# Altium integrated library Xilinx XC4000XL.IntLib: 450 symbols (part 29 of 58)

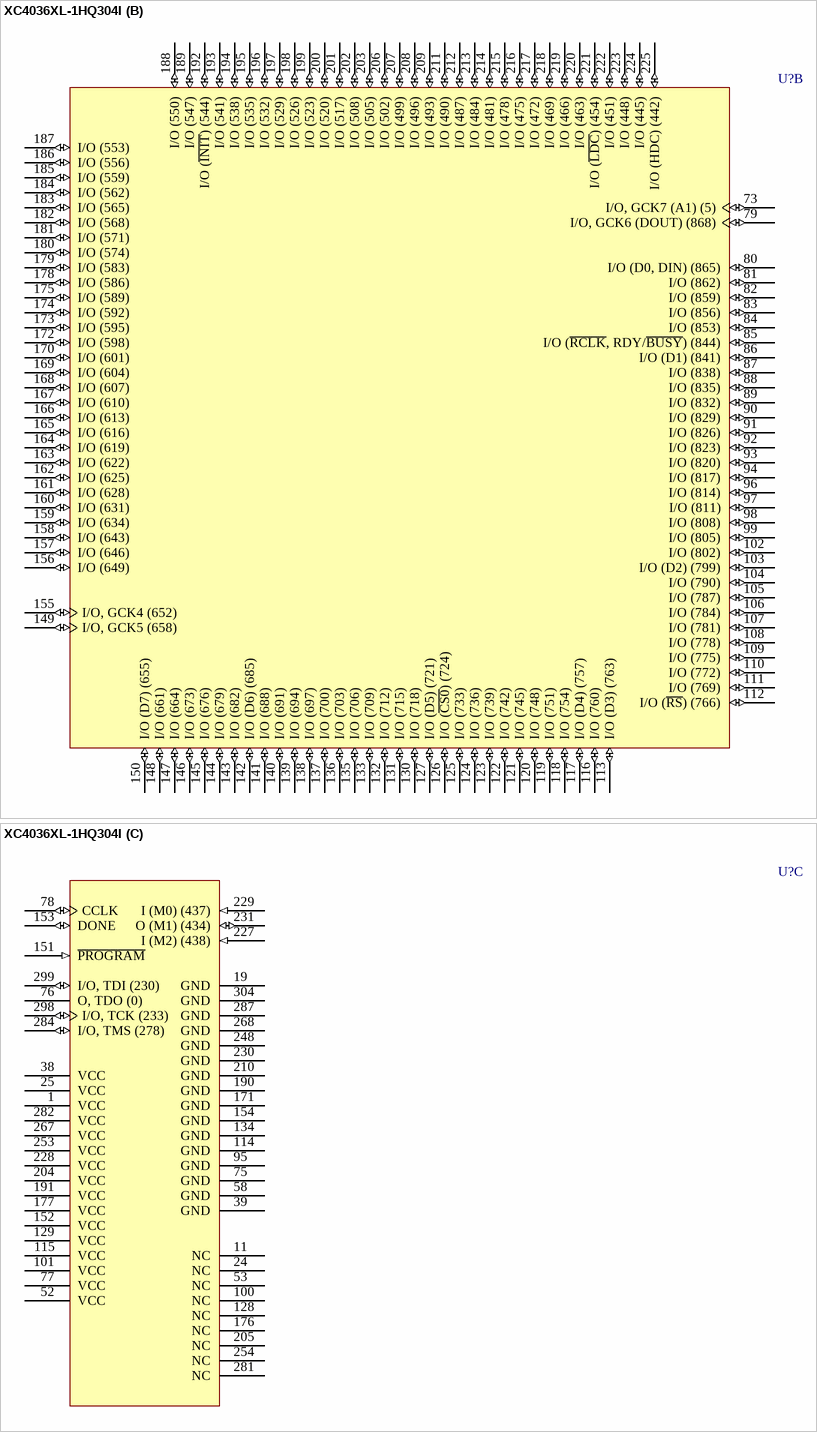
[diagram p262: symbol XC4036XL-1HQ304I]

## XC4036XL-1HQ304I
designator U?
XC4000XL FPGA, 256 I/Os, 304-Pin HQFP, Speed Grade 1, Industrial Grade; Published: 28-Feb-2003; LatestRevisionDate: 13-Apr-2006; LatestRevisionNote: IPC-7351 Footprint Added.; DatasheetVersion: ver1.6, May-1999; PackageVersion: ver1.1, Oct-2002; PackageReference: HQ304; Publisher: Altium Limited; PackageDescription: 304-Pin Heat Sink Quad Flat Pack (HQ304); Supplier 1: Digi-Key; Supplier Part Number 1: XC4036XL-1HQ304I-ND; Code_JEDEC: MO-143-JA; ComponentLink1Description: XC4000XL Datasheet; ComponentLink1URL: http://www.xilinx.com/support/documentation/data_sheets/4000.pdf; ComponentLink2Description: Discontinuation Notice; ComponentLink2URL: http://www.xilinx.com/support/documentation/customer_notices/pdn2004-21.pdf; ComponentLink3Description: HQ304 Package Drawing; ComponentLink3URL: http://www.xilinx.com/support/documentation/package_specs/hq304.pdf; ComponentLink4Description: XC4000 Documents; ComponentLink4URL: http://www.xilinx.com/support/documentation/xc4000.htm; ComponentLink5Description: Xilinx.com Home; ComponentLink5URL: http://www.xilinx.com
footprint HQ304_N (Shrink QFP, 304-Leads, Body 40x40mm, Pitch 0.5mm, IPC Medium Density)
footprint HQ304_L (Shrink QFP, 304-Leads, Body 40x40mm, Pitch 0.5mm, IPC High Density)
footprint HQ304_M (Shrink QFP, 304-Leads, Body 40x40mm, Pitch 0.5mm, IPC Low Density)
part A pins: 2 I/O, GCK8 (A15) (215) (io), 3 I/O (A14) (212) (io), 4 I/O (209) (io), 5 I/O (206) (io), 6 I/O (203) (io), 7 I/O (200) (io), 8 I/O (191) (io), 9 I/O (188) (io), 10 I/O (A13) (185) (io), 12 I/O (A12) (182) (io), 13 I/O (179) (io), 14 I/O (176) (io), 15 I/O (173) (io), 16 I/O (170) (io), 17 I/O (167) (io), 18 I/O (164) (io), 20 I/O (161) (io), 21 I/O (158) (io), 22 I/O (155) (io), 23 I/O (152) (io), 26 I/O (149) (io), 27 I/O (146) (io), 28 I/O (137) (io), 29 I/O (134) (io), 30 I/O (A11) (131) (io), 31 I/O (A10) (128) (io), 32 I/O (125) (io), 33 I/O (122) (io), 34 I/O (A18) (119) (io), 35 I/O (A19) (116) (io), 36 I/O (A9) (113) (io), 37 I/O (A8) (110) (io), 40 I/O (A7) (107) (io), 41 I/O (A6) (104) (io), 42 I/O (A20) (101) (io), 43 I/O (A21) (98) (io), 44 I/O (95) (io), 45 I/O (92) (io), 46 I/O (A5) (89) (io), 47 I/O (A4) (86) (io), 48 I/O (83) (io), 49 I/O (80) (io), 50 I/O (71) (io), 51 I/O (68) (io), 54 I/O (65) (io), 55 I/O (62) (io), 56 I/O (59) (io), 57 I/O (56) (io), 59 I/O (53) (io), 60 I/O (50) (io), 61 I/O (47) (io), 62 I/O (44) (io), 63 I/O (41) (io), 64 I/O (38) (io), 65 I/O (35) (io), 66 I/O (32) (io), 67 I/O (29) (io), 68 I/O (26) (io), 69 I/O (A3) (23) (io), 70 I/O (CS1, A2) (20) (io), 71 I/O (11) (io), 72 I/O (8) (io), 74 I/O (A0, ~{WS}) (2) (io), 226 I/O, GCK3 (439) (io), 232 I/O, GCK2 (431) (io), 233 I/O (428) (io), 234 I/O (425) (io), 235 I/O (422) (io), 236 I/O (413) (io), 237 I/O (410) (io), 238 I/O (407) (io), 239 I/O (404) (io), 240 I/O (401) (io), 241 I/O (398) (io), 242 I/O (395) (io), 243 I/O (392) (io), 244 I/O (389) (io), 245 I/O (386) (io), 246 I/O (383) (io), 247 I/O (380) (io), 249 I/O (377) (io), 250 I/O (374) (io), 251 I/O (371) (io), 252 I/O (368) (io), 255 I/O (365) (io), 256 I/O (362) (io), 257 I/O (353) (io), 258 I/O (350) (io), 259 I/O (347) (io), 260 I/O (344) (io), 261 I/O (341) (io), 262 I/O (338) (io), 263 I/O (335) (io), 264 I/O (332) (io), 265 I/O (329) (io), 266 I/O (326) (io), 269 I/O (323) (io), 270 I/O (320) (io), 271 I/O (317) (io), 272 I/O (314) (io), 273 I/O (311) (io), 274 I/O (308) (io), 275 I/O (305) (io), 276 I/O (302) (io), 277 I/O (299) (io), 278 I/O (296) (io), 279 I/O (287) (io), 280 I/O (284) (io), 283 I/O (281) (io), 285 I/O (275) (io), 286 I/O (272) (io), 288 I/O (269) (io), 289 I/O (266) (io), 290 I/O (263) (io), 291 I/O (260) (io), 292 I/O (257) (io), 293 I/O (254) (io), 294 I/O (251) (io), 295 I/O (248) (io), 296 I/O (245) (io), 297 I/O (242) (io), 300 I/O (227) (io), 301 I/O (224) (io), 302 I/O (A17) (221) (io), 303 I/O, GCK1 (A16) (218) (io)
part B pins: 73 I/O, GCK7 (A1) (5) (io), 79 I/O, GCK6 (DOUT) (868) (io), 80 I/O (D0, DIN) (865) (io), 81 I/O (862) (io), 82 I/O (859) (io), 83 I/O (856) (io), 84 I/O (853) (io), 85 I/O (~{RCLK}, RDY/~{BUSY}) (844) (io), 86 I/O (D1) (841) (io), 87 I/O (838) (io), 88 I/O (835) (io), 89 I/O (832) (io), 90 I/O (829) (io), 91 I/O (826) (io), 92 I/O (823) (io), 93 I/O (820) (io), 94 I/O (817) (io), 96 I/O (814) (io), 97 I/O (811) (io), 98 I/O (808) (io), 99 I/O (805) (io), 102 I/O (802) (io), 103 I/O (D2) (799) (io), 104 I/O (790) (io), 105 I/O (787) (io), 106 I/O (784) (io), 107 I/O (781) (io), 108 I/O (778) (io), 109 I/O (775) (io), 110 I/O (772) (io), 111 I/O (769) (io), 112 I/O (~{RS}) (766) (io), 113 I/O (D3) (763) (io), 116 I/O (760) (io), 117 I/O (D4) (757) (io), 118 I/O (754) (io), 119 I/O (751) (io), 120 I/O (748) (io), 121 I/O (745) (io), 122 I/O (742) (io), 123 I/O (739) (io), 124 I/O (736) (io), 125 I/O (733) (io), 126 I/O (~{CS0}) (724) (io), 127 I/O (D5) (721) (io), 130 I/O (718) (io), 131 I/O (715) (io), 132 I/O (712) (io), 133 I/O (709) (io), 135 I/O (706) (io), 136 I/O (703) (io), 137 I/O (700) (io), 138 I/O (697) (io), 139 I/O (694) (io), 140 I/O (691) (io), 141 I/O (688) (io), 142 I/O (D6) (685) (io), 143 I/O (682) (io), 144 I/O (679) (io), 145 I/O (676) (io), 146 I/O (673) (io), 147 I/O (664) (io), 148 I/O (661) (io), 149 I/O, GCK5 (658) (io), 150 I/O (D7) (655) (io), 155 I/O, GCK4 (652) (io), 156 I/O (649) (io), 157 I/O (646) (io), 158 I/O (643) (io), 159 I/O (634) (io), 160 I/O (631) (io), 161 I/O (628) (io), 162 I/O (625) (io), 163 I/O (622) (io), 164 I/O (619) (io), 165 I/O (616) (io), 166 I/O (613) (io), 167 I/O (610) (io), 168 I/O (607) (io), 169 I/O (604) (io), 170 I/O (601) (io), 172 I/O (598) (io), 173 I/O (595) (io), 174 I/O (592) (io), 175 I/O (589) (io), 178 I/O (586) (io), 179 I/O (583) (io), 180 I/O (574) (io), 181 I/O (571) (io), 182 I/O (568) (io), 183 I/O (565) (io), 184 I/O (562) (io), 185 I/O (559) (io), 186 I/O (556) (io), 187 I/O (553) (io), 188 I/O (550) (io), 189 I/O (547) (io), 192 I/O (~{INIT}) (544) (io), 193 I/O (541) (io), 194 I/O (538) (io), 195 I/O (535) (io), 196 I/O (532) (io), 197 I/O (529) (io), 198 I/O (526) (io), 199 I/O (523) (io), 200 I/O (520) (io), 201 I/O (517) (io), 202 I/O (508) (io), 203 I/O (505) (io), 206 I/O (502) (io), 207 I/O (499) (io), 208 I/O (496) (io), 209 I/O (493) (io), 211 I/O (490) (io), 212 I/O (487) (io), 213 I/O (484) (io), 214 I/O (481) (io), 215 I/O (478) (io), 216 I/O (475) (io), 217 I/O (472) (io), 218 I/O (469) (io), 219 I/O (466) (io), 220 I/O (463) (io), 221 I/O (~{LDC}) (454) (io), 222 I/O (451) (io), 223 I/O (448) (io), 224 I/O (445) (io), 225 I/O (HDC) (442) (io)
part C pins: 1 VCC (power), 11 NC, 19 GND (power), 24 NC, 25 VCC (power), 38 VCC (power), 39 GND (power), 52 VCC (power), 53 NC, 58 GND (power), 75 GND (power), 76 O, TDO (0) (hiz), 77 VCC (power), 78 CCLK (io), 95 GND (power), 100 NC, 101 VCC (power), 114 GND (power), 115 VCC (power), 128 NC, 129 VCC (power), 134 GND (power), 151 ~{PROGRAM} (in), 152 VCC (power), 153 DONE (io), 154 GND (power), 171 GND (power), 176 NC, 177 VCC (power), 190 GND (power), 191 VCC (power), 204 VCC (power), 205 NC, 210 GND (power), 227 I (M2) (438) (in), 228 VCC (power), 229 I (M0) (437) (in), 230 GND (power), 231 O (M1) (434) (io), 248 GND (power), 253 VCC (power), 254 NC, 267 VCC (power), 268 GND (power), 281 NC, 282 VCC (power), 284 I/O, TMS (278) (io), 287 GND (power), 298 I/O, TCK (233) (io), 299 I/O, TDI (230) (io), 304 GND (power)

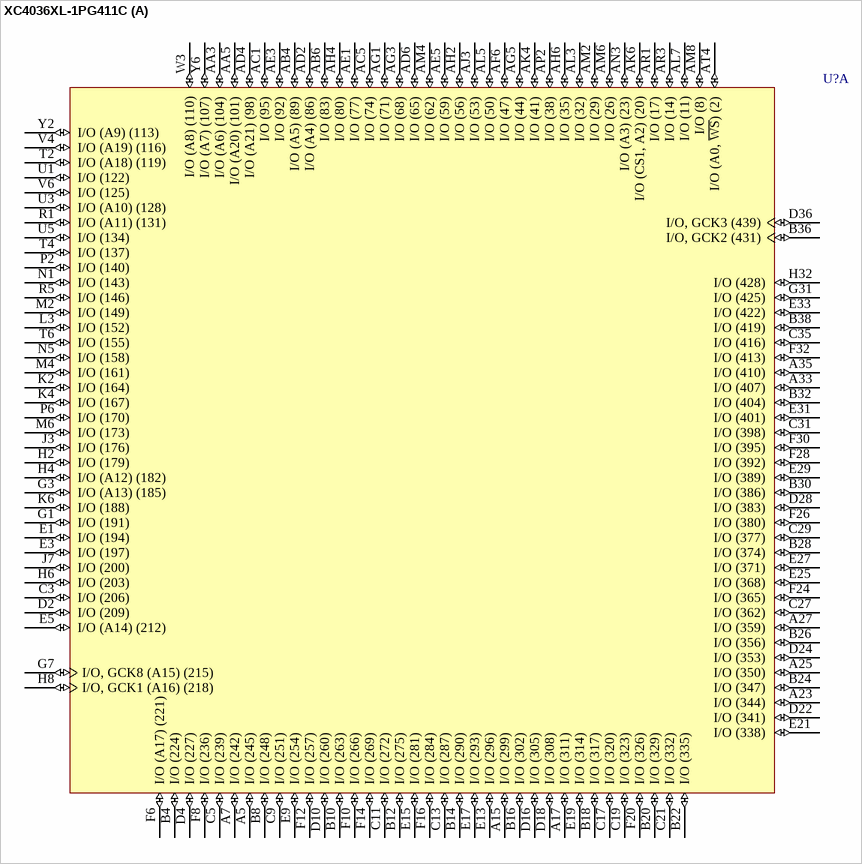
[diagram p263: symbol XC4036XL-1PG411C]

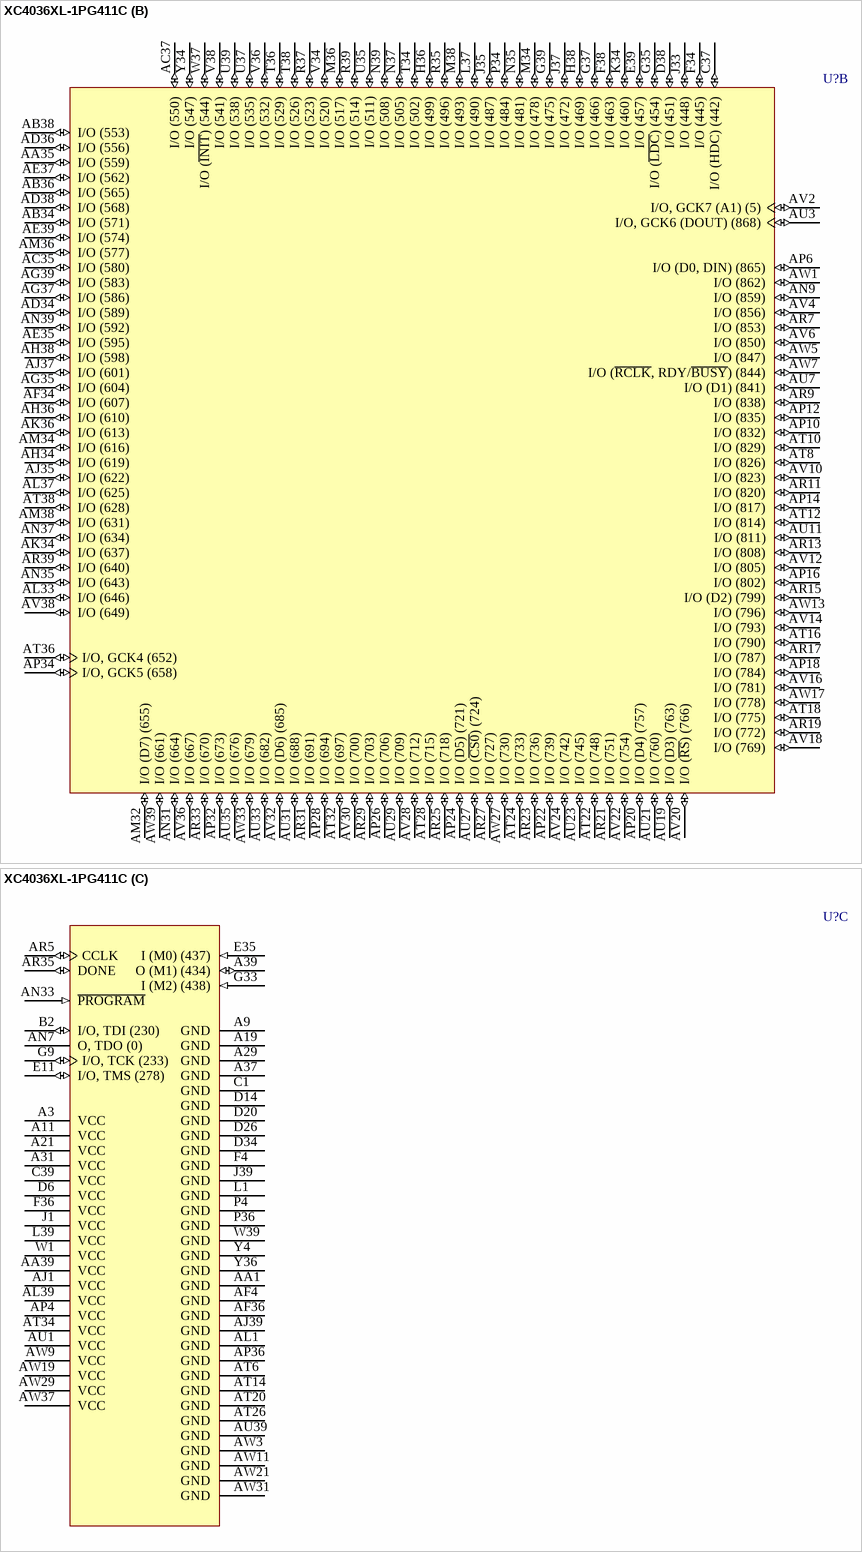
[diagram p264: symbol XC4036XL-1PG411C]

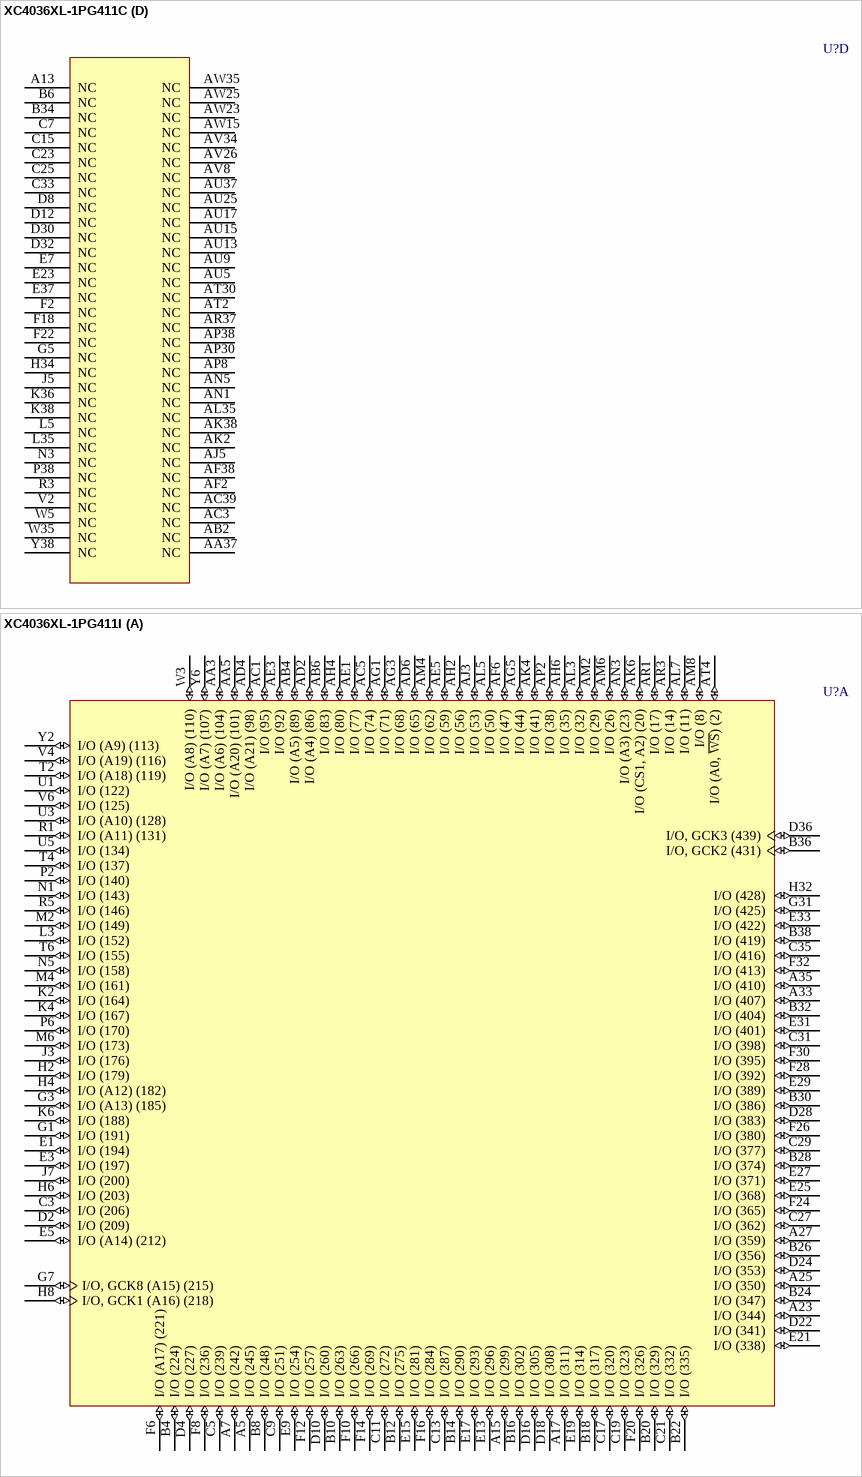
[diagram p265: symbols XC4036XL-1PG411C to XC4036XL-1PG411I]

## XC4036XL-1PG411C
designator U?
XC4000XL FPGA, 288 I/Os, 411-Pin PGA, Speed Grade 1, Commercial Grade; Published: 28-Feb-2003; LatestRevisionDate: 04-Mar-2005; LatestRevisionNote: Stylized 3D Model Added.; DatasheetVersion: ver1.6, May-1999; PackageVersion: ver1.1, Apr-2001; PackageReference: PG411; Publisher: Altium Limited; PackageDescription: 411-Pin Ceramic Pin Grid Array (PG411); Code_JEDEC: MO-128-AM; ComponentLink1Description: XC4000XL Datasheet; ComponentLink1URL: http://www.xilinx.com/support/documentation/data_sheets/4000.pdf; ComponentLink2Description: Discontinuation Notice; ComponentLink2URL: http://www.xilinx.com/support/documentation/customer_notices/pdn2001-02.pdf; ComponentLink3Description: PG411 Package Drawing; ComponentLink3URL: http://www.xilinx.com/support/documentation/package_specs/pg411.pdf; ComponentLink4Description: XC4000 Documents; ComponentLink4URL: http://www.xilinx.com/support/documentation/xc4000.htm; ComponentLink5Description: Xilinx.com Home; ComponentLink5URL: http://www.xilinx.com
footprint PG411 (PGA, 411-Leads, Body 52.3x52.3mm, Pitch 2.54mm)
part A pins: A5 I/O (245) (io), A7 I/O (242) (io), A15 I/O (299) (io), A17 I/O (311) (io), A23 I/O (344) (io), A25 I/O (350) (io), A27 I/O (359) (io), A33 I/O (407) (io), A35 I/O (410) (io), AA3 I/O (A6) (104) (io), AA5 I/O (A20) (101) (io), AB4 I/O (A5) (89) (io), AB6 I/O (83) (io), AC1 I/O (95) (io), AC5 I/O (74) (io), AD2 I/O (A4) (86) (io), AD4 I/O (A21) (98) (io), AD6 I/O (65) (io), AE1 I/O (77) (io), AE3 I/O (92) (io), AE5 I/O (59) (io), AF6 I/O (47) (io), AG1 I/O (71) (io), AG3 I/O (68) (io), AG5 I/O (44) (io), AH2 I/O (56) (io), AH4 I/O (80) (io), AH6 I/O (35) (io), AJ3 I/O (53) (io), AK4 I/O (41) (io), AK6 I/O (CS1, A2) (20) (io), AL3 I/O (32) (io), AL5 I/O (50) (io), AL7 I/O (11) (io), AM2 I/O (29) (io), AM4 I/O (62) (io), AM6 I/O (26) (io), AM8 I/O (8) (io), AN3 I/O (A3) (23) (io), AP2 I/O (38) (io), AR1 I/O (17) (io), AR3 I/O (14) (io), AT4 I/O (A0, ~{WS}) (2) (io), B4 I/O (224) (io), B8 I/O (248) (io), B10 I/O (263) (io), B12 I/O (275) (io), B14 I/O (290) (io), B16 I/O (302) (io), B18 I/O (317) (io), B20 I/O (329) (io), B22 I/O (335) (io), B24 I/O (347) (io), B26 I/O (356) (io), B28 I/O (374) (io), B30 I/O (386) (io), B32 I/O (404) (io), B36 I/O, GCK2 (431) (io), B38 I/O (419) (io), C3 I/O (206) (io), C5 I/O (239) (io), C9 I/O (251) (io), C11 I/O (272) (io), C13 I/O (287) (io), C17 I/O (320) (io), C19 I/O (323) (io), C21 I/O (332) (io), C27 I/O (362) (io), C29 I/O (377) (io), C31 I/O (398) (io), C35 I/O (416) (io), D2 I/O (209) (io), D4 I/O (227) (io), D10 I/O (260) (io), D16 I/O (305) (io), D18 I/O (308) (io), D22 I/O (341) (io), D24 I/O (353) (io), D28 I/O (383) (io), D36 I/O, GCK3 (439) (io), E1 I/O (194) (io), E3 I/O (197) (io), E5 I/O (A14) (212) (io), E9 I/O (254) (io), E13 I/O (296) (io), E15 I/O (281) (io), E17 I/O (293) (io), E19 I/O (314) (io), E21 I/O (338) (io), E25 I/O (368) (io), E27 I/O (371) (io), E29 I/O (389) (io), E31 I/O (401) (io), E33 I/O (422) (io), F6 I/O (A17) (221) (io), F8 I/O (236) (io), F10 I/O (266) (io), F12 I/O (257) (io), F14 I/O (269) (io), F16 I/O (284) (io), F20 I/O (326) (io), F24 I/O (365) (io), F26 I/O (380) (io), F28 I/O (392) (io), F30 I/O (395) (io), F32 I/O (413) (io), G1 I/O (191) (io), G3 I/O (A13) (185) (io), G7 I/O, GCK8 (A15) (215) (io), G31 I/O (425) (io), H2 I/O (179) (io), H4 I/O (A12) (182) (io), H6 I/O (203) (io), H8 I/O, GCK1 (A16) (218) (io), H32 I/O (428) (io), J3 I/O (176) (io), J7 I/O (200) (io), K2 I/O (164) (io), K4 I/O (167) (io), K6 I/O (188) (io), L3 I/O (152) (io), M2 I/O (149) (io), M4 I/O (161) (io), M6 I/O (173) (io), N1 I/O (143) (io), N5 I/O (158) (io), P2 I/O (140) (io), P6 I/O (170) (io), R1 I/O (A11) (131) (io), R5 I/O (146) (io), T2 I/O (A18) (119) (io), T4 I/O (137) (io), T6 I/O (155) (io), U1 I/O (122) (io), U3 I/O (A10) (128) (io), U5 I/O (134) (io), V4 I/O (A19) (116) (io), V6 I/O (125) (io), W3 I/O (A8) (110) (io), Y2 I/O (A9) (113) (io), Y6 I/O (A7) (107) (io)
part B pins: AA35 I/O (559) (io), AB34 I/O (571) (io), AB36 I/O (565) (io), AB38 I/O (553) (io), AC35 I/O (580) (io), AC37 I/O (550) (io), AD34 I/O (589) (io), AD36 I/O (556) (io), AD38 I/O (568) (io), AE35 I/O (595) (io), AE37 I/O (562) (io), AE39 I/O (574) (io), AF34 I/O (607) (io), AG35 I/O (604) (io), AG37 I/O (586) (io), AG39 I/O (583) (io), AH34 I/O (619) (io), AH36 I/O (610) (io), AH38 I/O (598) (io), AJ35 I/O (622) (io), AJ37 I/O (601) (io), AK34 I/O (637) (io), AK36 I/O (613) (io), AL33 I/O (646) (io), AL37 I/O (625) (io), AM32 I/O (D7) (655) (io), AM34 I/O (616) (io), AM36 I/O (577) (io), AM38 I/O (631) (io), AN9 I/O (859) (io), AN31 I/O (664) (io), AN35 I/O (643) (io), AN37 I/O (634) (io), AN39 I/O (592) (io), AP6 I/O (D0, DIN) (865) (io), AP10 I/O (832) (io), AP12 I/O (835) (io), AP14 I/O (817) (io), AP16 I/O (802) (io), AP18 I/O (784) (io), AP20 I/O (D4) (757) (io), AP22 I/O (739) (io), AP24 I/O (D5) (721) (io), AP26 I/O (706) (io), AP28 I/O (694) (io), AP32 I/O (673) (io), AP34 I/O, GCK5 (658) (io), AR7 I/O (853) (io), AR9 I/O (838) (io), AR11 I/O (820) (io), AR13 I/O (808) (io), AR15 I/O (D2) (799) (io), AR17 I/O (787) (io), AR19 I/O (772) (io), AR21 I/O (751) (io), AR23 I/O (736) (io), AR25 I/O (718) (io), AR27 I/O (727) (io), AR29 I/O (703) (io), AR31 I/O (691) (io), AR33 I/O (670) (io), AR39 I/O (640) (io), AT8 I/O (826) (io), AT10 I/O (829) (io), AT12 I/O (814) (io), AT16 I/O (790) (io), AT18 I/O (775) (io), AT22 I/O (748) (io), AT24 I/O (733) (io), AT28 I/O (715) (io), AT32 I/O (697) (io), AT36 I/O, GCK4 (652) (io), AT38 I/O (628) (io), AU3 I/O, GCK6 (DOUT) (868) (io), AU7 I/O (D1) (841) (io), AU11 I/O (811) (io), AU19 I/O (D3) (763) (io), AU21 I/O (760) (io), AU23 I/O (745) (io), AU27 I/O (~{CS0}) (724) (io), AU29 I/O (709) (io), AU31 I/O (688) (io), AU33 I/O (682) (io), AU35 I/O (676) (io), AV2 I/O, GCK7 (A1) (5) (io), AV4 I/O (856) (io), AV6 I/O (850) (io), AV10 I/O (823) (io), AV12 I/O (805) (io), AV14 I/O (793) (io), AV16 I/O (781) (io), AV18 I/O (769) (io), AV20 I/O (~{RS}) (766) (io), AV22 I/O (754) (io), AV24 I/O (742) (io), AV28 I/O (712) (io), AV30 I/O (700) (io), AV32 I/O (D6) (685) (io), AV36 I/O (667) (io), AV38 I/O (649) (io), AW1 I/O (862) (io), AW5 I/O (847) (io), AW7 I/O (~{RCLK}, RDY/~{BUSY}) (844) (io), AW13 I/O (796) (io), AW17 I/O (778) (io), AW27 I/O (730) (io), AW33 I/O (679) (io), AW39 I/O (661) (io), C37 I/O (HDC) (442) (io), D38 I/O (451) (io), E39 I/O (457) (io), F34 I/O (445) (io), F38 I/O (463) (io), G35 I/O (~{LDC}) (454) (io), G37 I/O (466) (io), G39 I/O (475) (io), H36 I/O (499) (io), H38 I/O (469) (io), J33 I/O (448) (io), J35 I/O (487) (io), J37 I/O (472) (io), K34 I/O (460) (io), L37 I/O (490) (io), M34 I/O (478) (io), M36 I/O (517) (io), M38 I/O (493) (io), N35 I/O (481) (io), N37 I/O (505) (io), N39 I/O (508) (io), P34 I/O (484) (io), R35 I/O (496) (io), R37 I/O (523) (io), R39 I/O (514) (io), T34 I/O (502) (io), T36 I/O (529) (io), T38 I/O (526) (io), U35 I/O (511) (io), U37 I/O (535) (io), U39 I/O (538) (io), V34 I/O (520) (io), V36 I/O (532) (io), V38 I/O (541) (io), W37 I/O (~{INIT}) (544) (io), Y34 I/O (547) (io)
part C pins: A3 VCC (power), A9 GND (power), A11 VCC (power), A19 GND (power), A21 VCC (power), A29 GND (power), A31 VCC (power), A37 GND (power), A39 O (M1) (434) (io), AA1 GND (power), AA39 VCC (power), AF4 GND (power), AF36 GND (power), AJ1 VCC (power), AJ39 GND (power), AL1 GND (power), AL39 VCC (power), AN7 O, TDO (0) (hiz), AN33 ~{PROGRAM} (in), AP4 VCC (power), AP36 GND (power), AR5 CCLK (io), AR35 DONE (io), AT6 GND (power), AT14 GND (power), AT20 GND (power), AT26 GND (power), AT34 VCC (power), AU1 VCC (power), AU39 GND (power), AW3 GND (power), AW9 VCC (power), AW11 GND (power), AW19 VCC (power), AW21 GND (power), AW29 VCC (power), AW31 GND (power), AW37 VCC (power), B2 I/O, TDI (230) (io), C1 GND (power), C39 VCC (power), D6 VCC (power), D14 GND (power), D20 GND (power), D26 GND (power), D34 GND (power), E11 I/O, TMS (278) (io), E35 I (M0) (437) (in), F4 GND (power), F36 VCC (power), G9 I/O, TCK (233) (io), G33 I (M2) (438) (in), J1 VCC (power), J39 GND (power), L1 GND (power), L39 VCC (power), P4 GND (power), P36 GND (power), W1 VCC (power), W39 GND (power), Y4 GND (power), Y36 GND (power)
part D pins: A13 NC, AA37 NC, AB2 NC, AC3 NC, AC39 NC, AF2 NC, AF38 NC, AJ5 NC, AK2 NC, AK38 NC, AL35 NC, AN1 NC, AN5 NC, AP8 NC, AP30 NC, AP38 NC, AR37 NC, AT2 NC, AT30 NC, AU5 NC, AU9 NC, AU13 NC, AU15 NC, AU17 NC, AU25 NC, AU37 NC, AV8 NC, AV26 NC, AV34 NC, AW15 NC, AW23 NC, AW25 NC, AW35 NC, B6 NC, B34 NC, C7 NC, C15 NC, C23 NC, C25 NC, C33 NC, D8 NC, D12 NC, D30 NC, D32 NC, E7 NC, E23 NC, E37 NC, F2 NC, F18 NC, F22 NC, G5 NC, H34 NC, J5 NC, K36 NC, K38 NC, L5 NC, L35 NC, N3 NC, P38 NC, R3 NC, V2 NC, W5 NC, W35 NC, Y38 NC

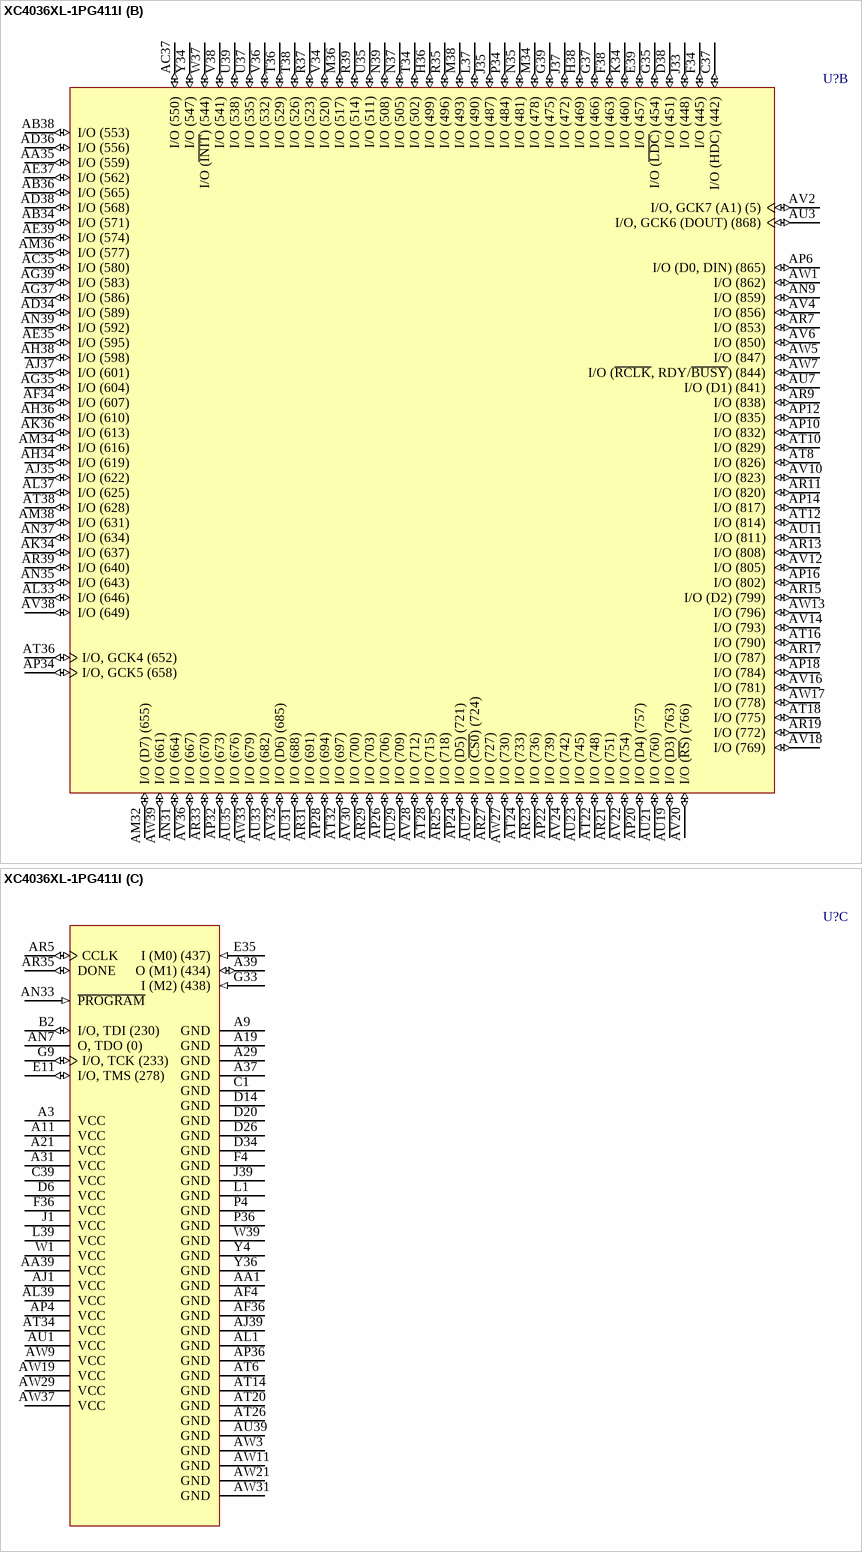
[diagram p266: symbol XC4036XL-1PG411I]

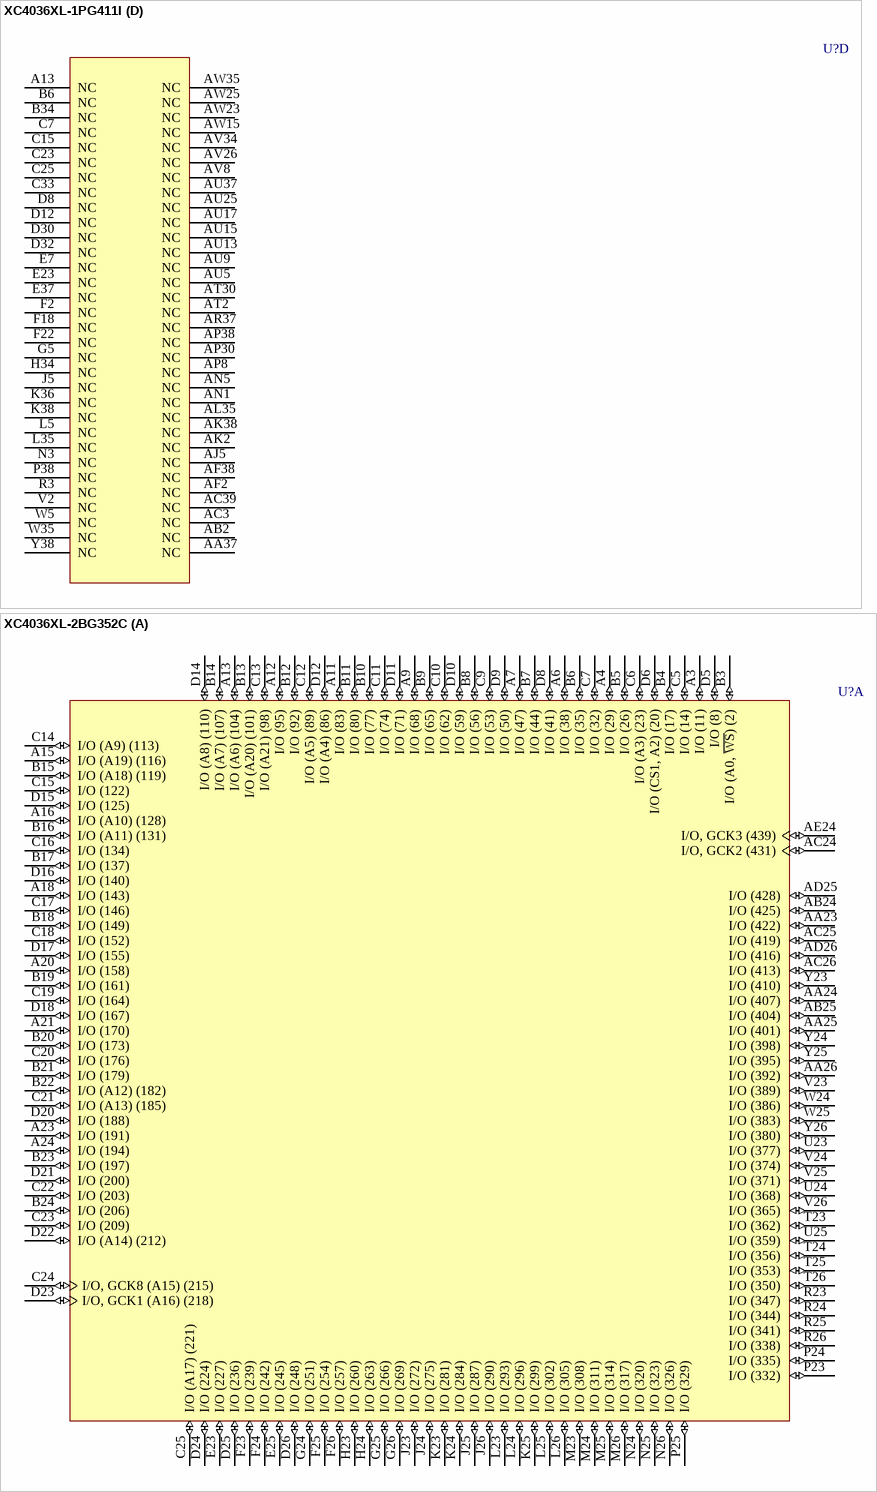
[diagram p267: symbols XC4036XL-1PG411I to XC4036XL-2BG352C]

## XC4036XL-1PG411I
designator U?
XC4000XL FPGA, 288 I/Os, 411-Pin PGA, Speed Grade 1, Industrial Grade; Published: 28-Feb-2003; LatestRevisionDate: 04-Mar-2005; LatestRevisionNote: Stylized 3D Model Added.; DatasheetVersion: ver1.6, May-1999; PackageVersion: ver1.1, Apr-2001; PackageReference: PG411; Publisher: Altium Limited; PackageDescription: 411-Pin Ceramic Pin Grid Array (PG411); Code_JEDEC: MO-128-AM; ComponentLink1Description: XC4000XL Datasheet; ComponentLink1URL: http://www.xilinx.com/support/documentation/data_sheets/4000.pdf; ComponentLink2Description: Discontinuation Notice; ComponentLink2URL: http://www.xilinx.com/support/documentation/customer_notices/pdn2001-02.pdf; ComponentLink3Description: PG411 Package Drawing; ComponentLink3URL: http://www.xilinx.com/support/documentation/package_specs/pg411.pdf; ComponentLink4Description: XC4000 Documents; ComponentLink4URL: http://www.xilinx.com/support/documentation/xc4000.htm; ComponentLink5Description: Xilinx.com Home; ComponentLink5URL: http://www.xilinx.com
footprint PG411 (PGA, 411-Leads, Body 52.3x52.3mm, Pitch 2.54mm)
part A pins: A5 I/O (245) (io), A7 I/O (242) (io), A15 I/O (299) (io), A17 I/O (311) (io), A23 I/O (344) (io), A25 I/O (350) (io), A27 I/O (359) (io), A33 I/O (407) (io), A35 I/O (410) (io), AA3 I/O (A6) (104) (io), AA5 I/O (A20) (101) (io), AB4 I/O (A5) (89) (io), AB6 I/O (83) (io), AC1 I/O (95) (io), AC5 I/O (74) (io), AD2 I/O (A4) (86) (io), AD4 I/O (A21) (98) (io), AD6 I/O (65) (io), AE1 I/O (77) (io), AE3 I/O (92) (io), AE5 I/O (59) (io), AF6 I/O (47) (io), AG1 I/O (71) (io), AG3 I/O (68) (io), AG5 I/O (44) (io), AH2 I/O (56) (io), AH4 I/O (80) (io), AH6 I/O (35) (io), AJ3 I/O (53) (io), AK4 I/O (41) (io), AK6 I/O (CS1, A2) (20) (io), AL3 I/O (32) (io), AL5 I/O (50) (io), AL7 I/O (11) (io), AM2 I/O (29) (io), AM4 I/O (62) (io), AM6 I/O (26) (io), AM8 I/O (8) (io), AN3 I/O (A3) (23) (io), AP2 I/O (38) (io), AR1 I/O (17) (io), AR3 I/O (14) (io), AT4 I/O (A0, ~{WS}) (2) (io), B4 I/O (224) (io), B8 I/O (248) (io), B10 I/O (263) (io), B12 I/O (275) (io), B14 I/O (290) (io), B16 I/O (302) (io), B18 I/O (317) (io), B20 I/O (329) (io), B22 I/O (335) (io), B24 I/O (347) (io), B26 I/O (356) (io), B28 I/O (374) (io), B30 I/O (386) (io), B32 I/O (404) (io), B36 I/O, GCK2 (431) (io), B38 I/O (419) (io), C3 I/O (206) (io), C5 I/O (239) (io), C9 I/O (251) (io), C11 I/O (272) (io), C13 I/O (287) (io), C17 I/O (320) (io), C19 I/O (323) (io), C21 I/O (332) (io), C27 I/O (362) (io), C29 I/O (377) (io), C31 I/O (398) (io), C35 I/O (416) (io), D2 I/O (209) (io), D4 I/O (227) (io), D10 I/O (260) (io), D16 I/O (305) (io), D18 I/O (308) (io), D22 I/O (341) (io), D24 I/O (353) (io), D28 I/O (383) (io), D36 I/O, GCK3 (439) (io), E1 I/O (194) (io), E3 I/O (197) (io), E5 I/O (A14) (212) (io), E9 I/O (254) (io), E13 I/O (296) (io), E15 I/O (281) (io), E17 I/O (293) (io), E19 I/O (314) (io), E21 I/O (338) (io), E25 I/O (368) (io), E27 I/O (371) (io), E29 I/O (389) (io), E31 I/O (401) (io), E33 I/O (422) (io), F6 I/O (A17) (221) (io), F8 I/O (236) (io), F10 I/O (266) (io), F12 I/O (257) (io), F14 I/O (269) (io), F16 I/O (284) (io), F20 I/O (326) (io), F24 I/O (365) (io), F26 I/O (380) (io), F28 I/O (392) (io), F30 I/O (395) (io), F32 I/O (413) (io), G1 I/O (191) (io), G3 I/O (A13) (185) (io), G7 I/O, GCK8 (A15) (215) (io), G31 I/O (425) (io), H2 I/O (179) (io), H4 I/O (A12) (182) (io), H6 I/O (203) (io), H8 I/O, GCK1 (A16) (218) (io), H32 I/O (428) (io), J3 I/O (176) (io), J7 I/O (200) (io), K2 I/O (164) (io), K4 I/O (167) (io), K6 I/O (188) (io), L3 I/O (152) (io), M2 I/O (149) (io), M4 I/O (161) (io), M6 I/O (173) (io), N1 I/O (143) (io), N5 I/O (158) (io), P2 I/O (140) (io), P6 I/O (170) (io), R1 I/O (A11) (131) (io), R5 I/O (146) (io), T2 I/O (A18) (119) (io), T4 I/O (137) (io), T6 I/O (155) (io), U1 I/O (122) (io), U3 I/O (A10) (128) (io), U5 I/O (134) (io), V4 I/O (A19) (116) (io), V6 I/O (125) (io), W3 I/O (A8) (110) (io), Y2 I/O (A9) (113) (io), Y6 I/O (A7) (107) (io)
part B pins: AA35 I/O (559) (io), AB34 I/O (571) (io), AB36 I/O (565) (io), AB38 I/O (553) (io), AC35 I/O (580) (io), AC37 I/O (550) (io), AD34 I/O (589) (io), AD36 I/O (556) (io), AD38 I/O (568) (io), AE35 I/O (595) (io), AE37 I/O (562) (io), AE39 I/O (574) (io), AF34 I/O (607) (io), AG35 I/O (604) (io), AG37 I/O (586) (io), AG39 I/O (583) (io), AH34 I/O (619) (io), AH36 I/O (610) (io), AH38 I/O (598) (io), AJ35 I/O (622) (io), AJ37 I/O (601) (io), AK34 I/O (637) (io), AK36 I/O (613) (io), AL33 I/O (646) (io), AL37 I/O (625) (io), AM32 I/O (D7) (655) (io), AM34 I/O (616) (io), AM36 I/O (577) (io), AM38 I/O (631) (io), AN9 I/O (859) (io), AN31 I/O (664) (io), AN35 I/O (643) (io), AN37 I/O (634) (io), AN39 I/O (592) (io), AP6 I/O (D0, DIN) (865) (io), AP10 I/O (832) (io), AP12 I/O (835) (io), AP14 I/O (817) (io), AP16 I/O (802) (io), AP18 I/O (784) (io), AP20 I/O (D4) (757) (io), AP22 I/O (739) (io), AP24 I/O (D5) (721) (io), AP26 I/O (706) (io), AP28 I/O (694) (io), AP32 I/O (673) (io), AP34 I/O, GCK5 (658) (io), AR7 I/O (853) (io), AR9 I/O (838) (io), AR11 I/O (820) (io), AR13 I/O (808) (io), AR15 I/O (D2) (799) (io), AR17 I/O (787) (io), AR19 I/O (772) (io), AR21 I/O (751) (io), AR23 I/O (736) (io), AR25 I/O (718) (io), AR27 I/O (727) (io), AR29 I/O (703) (io), AR31 I/O (691) (io), AR33 I/O (670) (io), AR39 I/O (640) (io), AT8 I/O (826) (io), AT10 I/O (829) (io), AT12 I/O (814) (io), AT16 I/O (790) (io), AT18 I/O (775) (io), AT22 I/O (748) (io), AT24 I/O (733) (io), AT28 I/O (715) (io), AT32 I/O (697) (io), AT36 I/O, GCK4 (652) (io), AT38 I/O (628) (io), AU3 I/O, GCK6 (DOUT) (868) (io), AU7 I/O (D1) (841) (io), AU11 I/O (811) (io), AU19 I/O (D3) (763) (io), AU21 I/O (760) (io), AU23 I/O (745) (io), AU27 I/O (~{CS0}) (724) (io), AU29 I/O (709) (io), AU31 I/O (688) (io), AU33 I/O (682) (io), AU35 I/O (676) (io), AV2 I/O, GCK7 (A1) (5) (io), AV4 I/O (856) (io), AV6 I/O (850) (io), AV10 I/O (823) (io), AV12 I/O (805) (io), AV14 I/O (793) (io), AV16 I/O (781) (io), AV18 I/O (769) (io), AV20 I/O (~{RS}) (766) (io), AV22 I/O (754) (io), AV24 I/O (742) (io), AV28 I/O (712) (io), AV30 I/O (700) (io), AV32 I/O (D6) (685) (io), AV36 I/O (667) (io), AV38 I/O (649) (io), AW1 I/O (862) (io), AW5 I/O (847) (io), AW7 I/O (~{RCLK}, RDY/~{BUSY}) (844) (io), AW13 I/O (796) (io), AW17 I/O (778) (io), AW27 I/O (730) (io), AW33 I/O (679) (io), AW39 I/O (661) (io), C37 I/O (HDC) (442) (io), D38 I/O (451) (io), E39 I/O (457) (io), F34 I/O (445) (io), F38 I/O (463) (io), G35 I/O (~{LDC}) (454) (io), G37 I/O (466) (io), G39 I/O (475) (io), H36 I/O (499) (io), H38 I/O (469) (io), J33 I/O (448) (io), J35 I/O (487) (io), J37 I/O (472) (io), K34 I/O (460) (io), L37 I/O (490) (io), M34 I/O (478) (io), M36 I/O (517) (io), M38 I/O (493) (io), N35 I/O (481) (io), N37 I/O (505) (io), N39 I/O (508) (io), P34 I/O (484) (io), R35 I/O (496) (io), R37 I/O (523) (io), R39 I/O (514) (io), T34 I/O (502) (io), T36 I/O (529) (io), T38 I/O (526) (io), U35 I/O (511) (io), U37 I/O (535) (io), U39 I/O (538) (io), V34 I/O (520) (io), V36 I/O (532) (io), V38 I/O (541) (io), W37 I/O (~{INIT}) (544) (io), Y34 I/O (547) (io)
part C pins: A3 VCC (power), A9 GND (power), A11 VCC (power), A19 GND (power), A21 VCC (power), A29 GND (power), A31 VCC (power), A37 GND (power), A39 O (M1) (434) (io), AA1 GND (power), AA39 VCC (power), AF4 GND (power), AF36 GND (power), AJ1 VCC (power), AJ39 GND (power), AL1 GND (power), AL39 VCC (power), AN7 O, TDO (0) (hiz), AN33 ~{PROGRAM} (in), AP4 VCC (power), AP36 GND (power), AR5 CCLK (io), AR35 DONE (io), AT6 GND (power), AT14 GND (power), AT20 GND (power), AT26 GND (power), AT34 VCC (power), AU1 VCC (power), AU39 GND (power), AW3 GND (power), AW9 VCC (power), AW11 GND (power), AW19 VCC (power), AW21 GND (power), AW29 VCC (power), AW31 GND (power), AW37 VCC (power), B2 I/O, TDI (230) (io), C1 GND (power), C39 VCC (power), D6 VCC (power), D14 GND (power), D20 GND (power), D26 GND (power), D34 GND (power), E11 I/O, TMS (278) (io), E35 I (M0) (437) (in), F4 GND (power), F36 VCC (power), G9 I/O, TCK (233) (io), G33 I (M2) (438) (in), J1 VCC (power), J39 GND (power), L1 GND (power), L39 VCC (power), P4 GND (power), P36 GND (power), W1 VCC (power), W39 GND (power), Y4 GND (power), Y36 GND (power)
part D pins: A13 NC, AA37 NC, AB2 NC, AC3 NC, AC39 NC, AF2 NC, AF38 NC, AJ5 NC, AK2 NC, AK38 NC, AL35 NC, AN1 NC, AN5 NC, AP8 NC, AP30 NC, AP38 NC, AR37 NC, AT2 NC, AT30 NC, AU5 NC, AU9 NC, AU13 NC, AU15 NC, AU17 NC, AU25 NC, AU37 NC, AV8 NC, AV26 NC, AV34 NC, AW15 NC, AW23 NC, AW25 NC, AW35 NC, B6 NC, B34 NC, C7 NC, C15 NC, C23 NC, C25 NC, C33 NC, D8 NC, D12 NC, D30 NC, D32 NC, E7 NC, E23 NC, E37 NC, F2 NC, F18 NC, F22 NC, G5 NC, H34 NC, J5 NC, K36 NC, K38 NC, L5 NC, L35 NC, N3 NC, P38 NC, R3 NC, V2 NC, W5 NC, W35 NC, Y38 NC

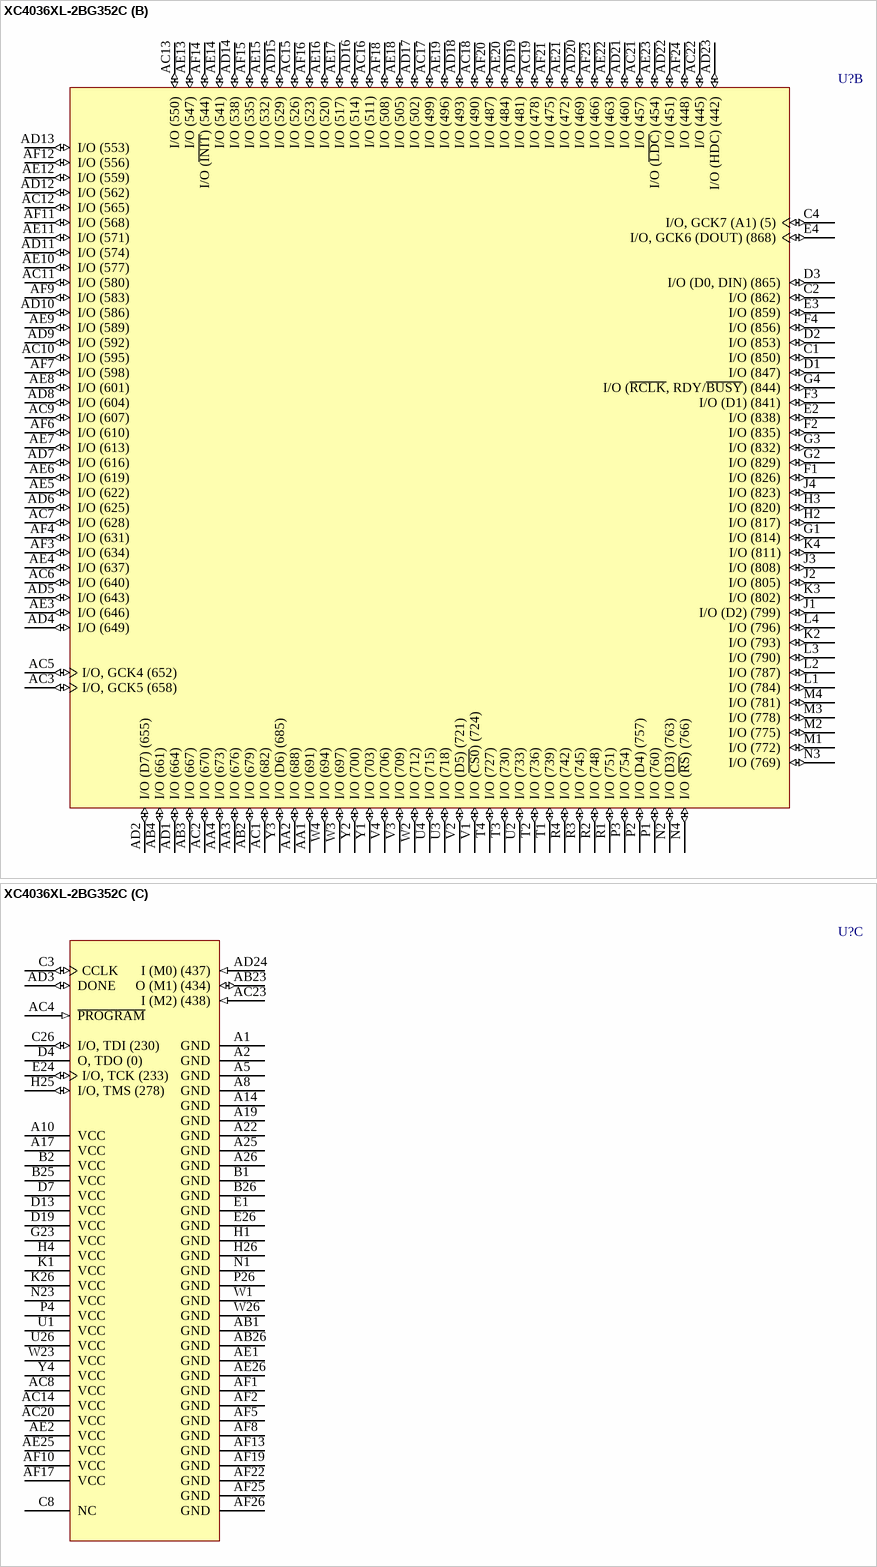
[diagram p268: symbol XC4036XL-2BG352C]

## XC4036XL-2BG352C
designator U?
XC4000XL FPGA, 288 I/Os, 352-Ball BGA, Speed Grade 2, Commercial Grade; Published: 28-Feb-2003; LatestRevisionDate: 13-Apr-2006; LatestRevisionNote: IPC-7351 Footprint Added.; DatasheetVersion: ver1.6, May-1999; PackageVersion: ver1.1, Apr-2001; PackageReference: BG352; Publisher: Altium Limited; PackageDescription: 352-Ball Metal Ball Grid Array (BG352); Supplier 1: Digi-Key; Supplier Part Number 1: XC4036XL-2BG352C-ND; Code_JEDEC: MO-192-BAR-2; ComponentLink1Description: XC4000XL Datasheet; ComponentLink1URL: http://www.xilinx.com/support/documentation/data_sheets/4000.pdf; ComponentLink2Description: Discontinuation Notice; ComponentLink2URL: http://www.xilinx.com/support/documentation/customer_notices/pdn2004-21.pdf; ComponentLink3Description: BG352 Package Drawing; ComponentLink3URL: http://www.xilinx.com/support/documentation/package_specs/bg352.pdf; ComponentLink4Description: XC4000 Documents; ComponentLink4URL: http://www.xilinx.com/support/documentation/xc4000.htm; ComponentLink5Description: Xilinx.com Home; ComponentLink5URL: http://www.xilinx.com
footprint BG352 (BGA, 352-Leads, Body 35x35mm, Pitch 1.27mm)
part A pins: A3 I/O (11) (io), A4 I/O (29) (io), A6 I/O (38) (io), A7 I/O (47) (io), A9 I/O (68) (io), A11 I/O (83) (io), A12 I/O (95) (io), A13 I/O (A6) (104) (io), A15 I/O (A19) (116) (io), A16 I/O (A10) (128) (io), A18 I/O (143) (io), A20 I/O (158) (io), A21 I/O (170) (io), A23 I/O (191) (io), A24 I/O (194) (io), AA23 I/O (422) (io), AA24 I/O (407) (io), AA25 I/O (401) (io), AA26 I/O (392) (io), AB24 I/O (425) (io), AB25 I/O (404) (io), AC24 I/O, GCK2 (431) (io), AC25 I/O (419) (io), AC26 I/O (413) (io), AD25 I/O (428) (io), AD26 I/O (416) (io), AE24 I/O, GCK3 (439) (io), B3 I/O (A0, ~{WS}) (2) (io), B4 I/O (17) (io), B5 I/O (26) (io), B6 I/O (35) (io), B7 I/O (44) (io), B8 I/O (56) (io), B9 I/O (65) (io), B10 I/O (77) (io), B11 I/O (80) (io), B12 I/O (92) (io), B13 I/O (A20) (101) (io), B14 I/O (A7) (107) (io), B15 I/O (A18) (119) (io), B16 I/O (A11) (131) (io), B17 I/O (137) (io), B18 I/O (149) (io), B19 I/O (161) (io), B20 I/O (173) (io), B21 I/O (179) (io), B22 I/O (A12) (182) (io), B23 I/O (197) (io), B24 I/O (206) (io), C5 I/O (14) (io), C6 I/O (A3) (23) (io), C7 I/O (32) (io), C9 I/O (53) (io), C10 I/O (62) (io), C11 I/O (74) (io), C12 I/O (A5) (89) (io), C13 I/O (A21) (98) (io), C14 I/O (A9) (113) (io), C15 I/O (122) (io), C16 I/O (134) (io), C17 I/O (146) (io), C18 I/O (152) (io), C19 I/O (164) (io), C20 I/O (176) (io), C21 I/O (A13) (185) (io), C22 I/O (203) (io), C23 I/O (209) (io), C24 I/O, GCK8 (A15) (215) (io), C25 I/O (A17) (221) (io), D5 I/O (8) (io), D6 I/O (CS1, A2) (20) (io), D8 I/O (41) (io), D9 I/O (50) (io), D10 I/O (59) (io), D11 I/O (71) (io), D12 I/O (A4) (86) (io), D14 I/O (A8) (110) (io), D15 I/O (125) (io), D16 I/O (140) (io), D17 I/O (155) (io), D18 I/O (167) (io), D20 I/O (188) (io), D21 I/O (200) (io), D22 I/O (A14) (212) (io), D23 I/O, GCK1 (A16) (218) (io), D24 I/O (224) (io), D25 I/O (236) (io), D26 I/O (248) (io), E23 I/O (227) (io), E25 I/O (245) (io), F23 I/O (239) (io), F24 I/O (242) (io), F25 I/O (254) (io), F26 I/O (257) (io), G24 I/O (251) (io), G25 I/O (266) (io), G26 I/O (269) (io), H23 I/O (260) (io), H24 I/O (263) (io), J23 I/O (272) (io), J24 I/O (275) (io), J25 I/O (287) (io), J26 I/O (290) (io), K23 I/O (281) (io), K24 I/O (284) (io), K25 I/O (299) (io), L23 I/O (293) (io), L24 I/O (296) (io), L25 I/O (302) (io), L26 I/O (305) (io), M23 I/O (308) (io), M24 I/O (311) (io), M25 I/O (314) (io), M26 I/O (317) (io), N24 I/O (320) (io), N25 I/O (323) (io), N26 I/O (326) (io), P23 I/O (332) (io), P24 I/O (335) (io), P25 I/O (329) (io), R23 I/O (347) (io), R24 I/O (344) (io), R25 I/O (341) (io), R26 I/O (338) (io), T23 I/O (362) (io), T24 I/O (356) (io), T25 I/O (353) (io), T26 I/O (350) (io), U23 I/O (377) (io), U24 I/O (368) (io), U25 I/O (359) (io), V23 I/O (389) (io), V24 I/O (374) (io), V25 I/O (371) (io), V26 I/O (365) (io), W24 I/O (386) (io), W25 I/O (383) (io), Y23 I/O (410) (io), Y24 I/O (398) (io), Y25 I/O (395) (io), Y26 I/O (380) (io)
part B pins: AA1 I/O (691) (io), AA2 I/O (688) (io), AA3 I/O (676) (io), AA4 I/O (673) (io), AB2 I/O (679) (io), AB3 I/O (667) (io), AB4 I/O (661) (io), AC1 I/O (682) (io), AC2 I/O (670) (io), AC3 I/O, GCK5 (658) (io), AC5 I/O, GCK4 (652) (io), AC6 I/O (640) (io), AC7 I/O (628) (io), AC9 I/O (607) (io), AC10 I/O (595) (io), AC11 I/O (580) (io), AC12 I/O (565) (io), AC13 I/O (550) (io), AC15 I/O (526) (io), AC16 I/O (511) (io), AC17 I/O (499) (io), AC18 I/O (490) (io), AC19 I/O (478) (io), AC21 I/O (457) (io), AC22 I/O (445) (io), AD1 I/O (664) (io), AD2 I/O (D7) (655) (io), AD4 I/O (649) (io), AD5 I/O (643) (io), AD6 I/O (625) (io), AD7 I/O (616) (io), AD8 I/O (604) (io), AD9 I/O (592) (io), AD10 I/O (586) (io), AD11 I/O (574) (io), AD12 I/O (562) (io), AD13 I/O (553) (io), AD14 I/O (538) (io), AD15 I/O (529) (io), AD16 I/O (514) (io), AD17 I/O (502) (io), AD18 I/O (493) (io), AD19 I/O (481) (io), AD20 I/O (469) (io), AD21 I/O (460) (io), AD22 I/O (451) (io), AD23 I/O (HDC) (442) (io), AE3 I/O (646) (io), AE4 I/O (637) (io), AE5 I/O (622) (io), AE6 I/O (619) (io), AE7 I/O (613) (io), AE8 I/O (601) (io), AE9 I/O (589) (io), AE10 I/O (577) (io), AE11 I/O (571) (io), AE12 I/O (559) (io), AE13 I/O (547) (io), AE14 I/O (541) (io), AE15 I/O (532) (io), AE16 I/O (520) (io), AE17 I/O (517) (io), AE18 I/O (505) (io), AE19 I/O (496) (io), AE20 I/O (484) (io), AE21 I/O (472) (io), AE22 I/O (463) (io), AE23 I/O (~{LDC}) (454) (io), AF3 I/O (634) (io), AF4 I/O (631) (io), AF6 I/O (610) (io), AF7 I/O (598) (io), AF9 I/O (583) (io), AF11 I/O (568) (io), AF12 I/O (556) (io), AF14 I/O (~{INIT}) (544) (io), AF15 I/O (535) (io), AF16 I/O (523) (io), AF18 I/O (508) (io), AF20 I/O (487) (io), AF21 I/O (475) (io), AF23 I/O (466) (io), AF24 I/O (448) (io), C1 I/O (850) (io), C2 I/O (862) (io), C4 I/O, GCK7 (A1) (5) (io), D1 I/O (847) (io), D2 I/O (853) (io), D3 I/O (D0, DIN) (865) (io), E2 I/O (838) (io), E3 I/O (859) (io), E4 I/O, GCK6 (DOUT) (868) (io), F1 I/O (826) (io), F2 I/O (835) (io), F3 I/O (D1) (841) (io), F4 I/O (856) (io), G1 I/O (814) (io), G2 I/O (829) (io), G3 I/O (832) (io), G4 I/O (~{RCLK}, RDY/~{BUSY}) (844) (io), H2 I/O (817) (io), H3 I/O (820) (io), J1 I/O (D2) (799) (io), J2 I/O (805) (io), J3 I/O (808) (io), J4 I/O (823) (io), K2 I/O (793) (io), K3 I/O (802) (io), K4 I/O (811) (io), L1 I/O (784) (io), L2 I/O (787) (io), L3 I/O (790) (io), L4 I/O (796) (io), M1 I/O (772) (io), M2 I/O (775) (io), M3 I/O (778) (io), M4 I/O (781) (io), N2 I/O (D3) (763) (io), N3 I/O (769) (io), N4 I/O (~{RS}) (766) (io), P1 I/O (760) (io), P2 I/O (D4) (757) (io), P3 I/O (754) (io), R1 I/O (751) (io), R2 I/O (748) (io), R3 I/O (745) (io), R4 I/O (742) (io), T1 I/O (739) (io), T2 I/O (736) (io), T3 I/O (730) (io), T4 I/O (727) (io), U2 I/O (733) (io), U3 I/O (718) (io), U4 I/O (715) (io), V1 I/O (~{CS0}) (724) (io), V2 I/O (D5) (721) (io), V3 I/O (709) (io), V4 I/O (706) (io), W2 I/O (712) (io), W3 I/O (697) (io), W4 I/O (694) (io), Y1 I/O (703) (io), Y2 I/O (700) (io), Y3 I/O (D6) (685) (io)
part C pins: A1 GND (power), A2 GND (power), A5 GND (power), A8 GND (power), A10 VCC (power), A14 GND (power), A17 VCC (power), A19 GND (power), A22 GND (power), A25 GND (power), A26 GND (power), AB1 GND (power), AB23 O (M1) (434) (io), AB26 GND (power), AC4 ~{PROGRAM} (in), AC8 VCC (power), AC14 VCC (power), AC20 VCC (power), AC23 I (M2) (438) (in), AD3 DONE (io), AD24 I (M0) (437) (in), AE1 GND (power), AE2 VCC (power), AE25 VCC (power), AE26 GND (power), AF1 GND (power), AF2 GND (power), AF5 GND (power), AF8 GND (power), AF10 VCC (power), AF13 GND (power), AF17 VCC (power), AF19 GND (power), AF22 GND (power), AF25 GND (power), AF26 GND (power), B1 GND (power), B2 VCC (power), B25 VCC (power), B26 GND (power), C3 CCLK (io), C8 NC, C26 I/O, TDI (230) (io), D4 O, TDO (0) (hiz), D7 VCC (power), D13 VCC (power), D19 VCC (power), E1 GND (power), E24 I/O, TCK (233) (io), E26 GND (power), G23 VCC (power), H1 GND (power), H4 VCC (power), H25 I/O, TMS (278) (io), H26 GND (power), K1 VCC (power), K26 VCC (power), N1 GND (power), N23 VCC (power), P4 VCC (power), P26 GND (power), U1 VCC (power), U26 VCC (power), W1 GND (power), W23 VCC (power), W26 GND (power), Y4 VCC (power)

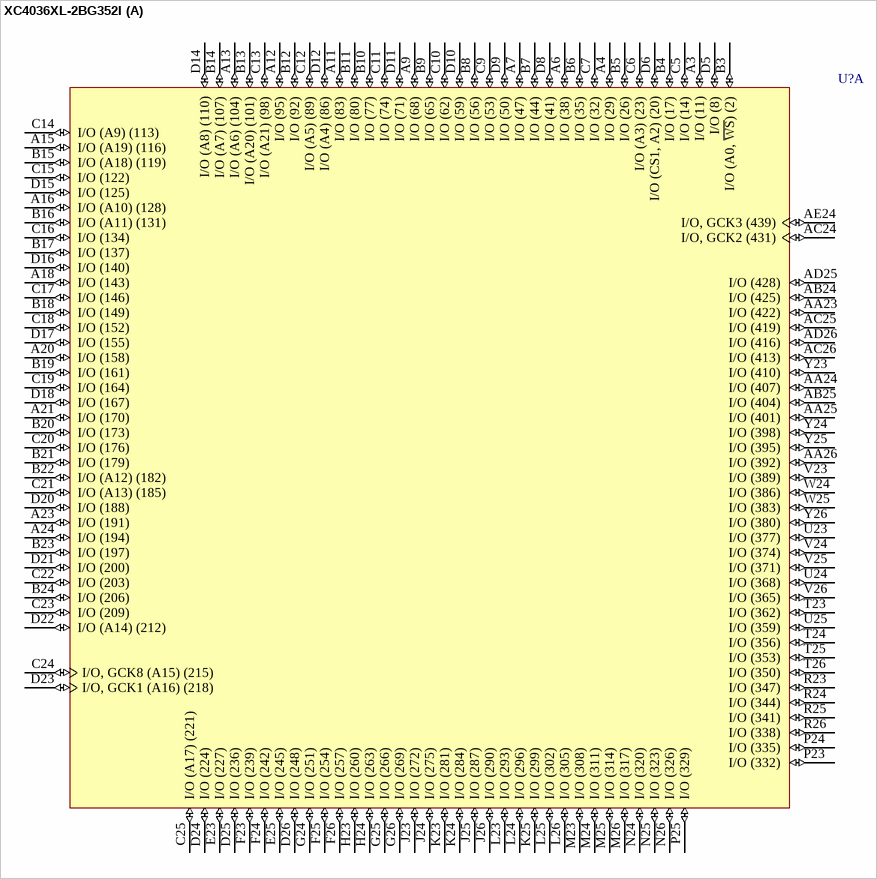
[diagram p269: symbol XC4036XL-2BG352I]

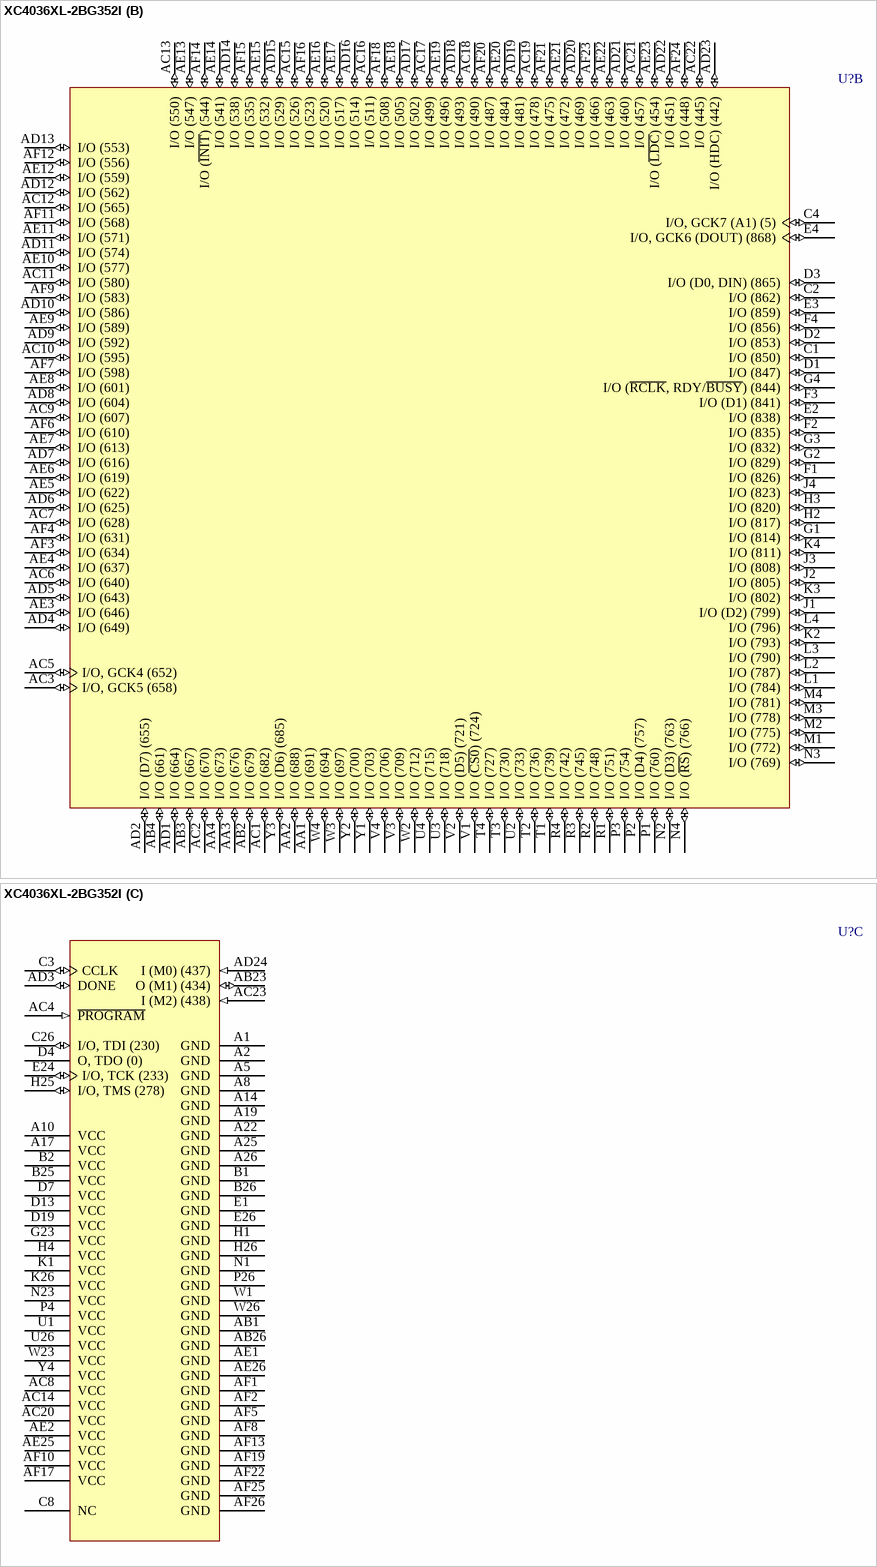
[diagram p270: symbol XC4036XL-2BG352I]

## XC4036XL-2BG352I
designator U?
XC4000XL FPGA, 288 I/Os, 352-Ball BGA, Speed Grade 2, Industrial Grade; Published: 28-Feb-2003; LatestRevisionDate: 13-Apr-2006; LatestRevisionNote: IPC-7351 Footprint Added.; DatasheetVersion: ver1.6, May-1999; PackageVersion: ver1.1, Apr-2001; PackageReference: BG352; Publisher: Altium Limited; PackageDescription: 352-Ball Metal Ball Grid Array (BG352); Supplier 1: Digi-Key; Supplier Part Number 1: XC4036XL-2BG352I-ND; Code_JEDEC: MO-192-BAR-2; ComponentLink1Description: XC4000XL Datasheet; ComponentLink1URL: http://www.xilinx.com/support/documentation/data_sheets/4000.pdf; ComponentLink2Description: Discontinuation Notice; ComponentLink2URL: http://www.xilinx.com/support/documentation/customer_notices/pdn2004-21.pdf; ComponentLink3Description: BG352 Package Drawing; ComponentLink3URL: http://www.xilinx.com/support/documentation/package_specs/bg352.pdf; ComponentLink4Description: XC4000 Documents; ComponentLink4URL: http://www.xilinx.com/support/documentation/xc4000.htm; ComponentLink5Description: Xilinx.com Home; ComponentLink5URL: http://www.xilinx.com
footprint BG352 (BGA, 352-Leads, Body 35x35mm, Pitch 1.27mm)
part A pins: A3 I/O (11) (io), A4 I/O (29) (io), A6 I/O (38) (io), A7 I/O (47) (io), A9 I/O (68) (io), A11 I/O (83) (io), A12 I/O (95) (io), A13 I/O (A6) (104) (io), A15 I/O (A19) (116) (io), A16 I/O (A10) (128) (io), A18 I/O (143) (io), A20 I/O (158) (io), A21 I/O (170) (io), A23 I/O (191) (io), A24 I/O (194) (io), AA23 I/O (422) (io), AA24 I/O (407) (io), AA25 I/O (401) (io), AA26 I/O (392) (io), AB24 I/O (425) (io), AB25 I/O (404) (io), AC24 I/O, GCK2 (431) (io), AC25 I/O (419) (io), AC26 I/O (413) (io), AD25 I/O (428) (io), AD26 I/O (416) (io), AE24 I/O, GCK3 (439) (io), B3 I/O (A0, ~{WS}) (2) (io), B4 I/O (17) (io), B5 I/O (26) (io), B6 I/O (35) (io), B7 I/O (44) (io), B8 I/O (56) (io), B9 I/O (65) (io), B10 I/O (77) (io), B11 I/O (80) (io), B12 I/O (92) (io), B13 I/O (A20) (101) (io), B14 I/O (A7) (107) (io), B15 I/O (A18) (119) (io), B16 I/O (A11) (131) (io), B17 I/O (137) (io), B18 I/O (149) (io), B19 I/O (161) (io), B20 I/O (173) (io), B21 I/O (179) (io), B22 I/O (A12) (182) (io), B23 I/O (197) (io), B24 I/O (206) (io), C5 I/O (14) (io), C6 I/O (A3) (23) (io), C7 I/O (32) (io), C9 I/O (53) (io), C10 I/O (62) (io), C11 I/O (74) (io), C12 I/O (A5) (89) (io), C13 I/O (A21) (98) (io), C14 I/O (A9) (113) (io), C15 I/O (122) (io), C16 I/O (134) (io), C17 I/O (146) (io), C18 I/O (152) (io), C19 I/O (164) (io), C20 I/O (176) (io), C21 I/O (A13) (185) (io), C22 I/O (203) (io), C23 I/O (209) (io), C24 I/O, GCK8 (A15) (215) (io), C25 I/O (A17) (221) (io), D5 I/O (8) (io), D6 I/O (CS1, A2) (20) (io), D8 I/O (41) (io), D9 I/O (50) (io), D10 I/O (59) (io), D11 I/O (71) (io), D12 I/O (A4) (86) (io), D14 I/O (A8) (110) (io), D15 I/O (125) (io), D16 I/O (140) (io), D17 I/O (155) (io), D18 I/O (167) (io), D20 I/O (188) (io), D21 I/O (200) (io), D22 I/O (A14) (212) (io), D23 I/O, GCK1 (A16) (218) (io), D24 I/O (224) (io), D25 I/O (236) (io), D26 I/O (248) (io), E23 I/O (227) (io), E25 I/O (245) (io), F23 I/O (239) (io), F24 I/O (242) (io), F25 I/O (254) (io), F26 I/O (257) (io), G24 I/O (251) (io), G25 I/O (266) (io), G26 I/O (269) (io), H23 I/O (260) (io), H24 I/O (263) (io), J23 I/O (272) (io), J24 I/O (275) (io), J25 I/O (287) (io), J26 I/O (290) (io), K23 I/O (281) (io), K24 I/O (284) (io), K25 I/O (299) (io), L23 I/O (293) (io), L24 I/O (296) (io), L25 I/O (302) (io), L26 I/O (305) (io), M23 I/O (308) (io), M24 I/O (311) (io), M25 I/O (314) (io), M26 I/O (317) (io), N24 I/O (320) (io), N25 I/O (323) (io), N26 I/O (326) (io), P23 I/O (332) (io), P24 I/O (335) (io), P25 I/O (329) (io), R23 I/O (347) (io), R24 I/O (344) (io), R25 I/O (341) (io), R26 I/O (338) (io), T23 I/O (362) (io), T24 I/O (356) (io), T25 I/O (353) (io), T26 I/O (350) (io), U23 I/O (377) (io), U24 I/O (368) (io), U25 I/O (359) (io), V23 I/O (389) (io), V24 I/O (374) (io), V25 I/O (371) (io), V26 I/O (365) (io), W24 I/O (386) (io), W25 I/O (383) (io), Y23 I/O (410) (io), Y24 I/O (398) (io), Y25 I/O (395) (io), Y26 I/O (380) (io)
part B pins: AA1 I/O (691) (io), AA2 I/O (688) (io), AA3 I/O (676) (io), AA4 I/O (673) (io), AB2 I/O (679) (io), AB3 I/O (667) (io), AB4 I/O (661) (io), AC1 I/O (682) (io), AC2 I/O (670) (io), AC3 I/O, GCK5 (658) (io), AC5 I/O, GCK4 (652) (io), AC6 I/O (640) (io), AC7 I/O (628) (io), AC9 I/O (607) (io), AC10 I/O (595) (io), AC11 I/O (580) (io), AC12 I/O (565) (io), AC13 I/O (550) (io), AC15 I/O (526) (io), AC16 I/O (511) (io), AC17 I/O (499) (io), AC18 I/O (490) (io), AC19 I/O (478) (io), AC21 I/O (457) (io), AC22 I/O (445) (io), AD1 I/O (664) (io), AD2 I/O (D7) (655) (io), AD4 I/O (649) (io), AD5 I/O (643) (io), AD6 I/O (625) (io), AD7 I/O (616) (io), AD8 I/O (604) (io), AD9 I/O (592) (io), AD10 I/O (586) (io), AD11 I/O (574) (io), AD12 I/O (562) (io), AD13 I/O (553) (io), AD14 I/O (538) (io), AD15 I/O (529) (io), AD16 I/O (514) (io), AD17 I/O (502) (io), AD18 I/O (493) (io), AD19 I/O (481) (io), AD20 I/O (469) (io), AD21 I/O (460) (io), AD22 I/O (451) (io), AD23 I/O (HDC) (442) (io), AE3 I/O (646) (io), AE4 I/O (637) (io), AE5 I/O (622) (io), AE6 I/O (619) (io), AE7 I/O (613) (io), AE8 I/O (601) (io), AE9 I/O (589) (io), AE10 I/O (577) (io), AE11 I/O (571) (io), AE12 I/O (559) (io), AE13 I/O (547) (io), AE14 I/O (541) (io), AE15 I/O (532) (io), AE16 I/O (520) (io), AE17 I/O (517) (io), AE18 I/O (505) (io), AE19 I/O (496) (io), AE20 I/O (484) (io), AE21 I/O (472) (io), AE22 I/O (463) (io), AE23 I/O (~{LDC}) (454) (io), AF3 I/O (634) (io), AF4 I/O (631) (io), AF6 I/O (610) (io), AF7 I/O (598) (io), AF9 I/O (583) (io), AF11 I/O (568) (io), AF12 I/O (556) (io), AF14 I/O (~{INIT}) (544) (io), AF15 I/O (535) (io), AF16 I/O (523) (io), AF18 I/O (508) (io), AF20 I/O (487) (io), AF21 I/O (475) (io), AF23 I/O (466) (io), AF24 I/O (448) (io), C1 I/O (850) (io), C2 I/O (862) (io), C4 I/O, GCK7 (A1) (5) (io), D1 I/O (847) (io), D2 I/O (853) (io), D3 I/O (D0, DIN) (865) (io), E2 I/O (838) (io), E3 I/O (859) (io), E4 I/O, GCK6 (DOUT) (868) (io), F1 I/O (826) (io), F2 I/O (835) (io), F3 I/O (D1) (841) (io), F4 I/O (856) (io), G1 I/O (814) (io), G2 I/O (829) (io), G3 I/O (832) (io), G4 I/O (~{RCLK}, RDY/~{BUSY}) (844) (io), H2 I/O (817) (io), H3 I/O (820) (io), J1 I/O (D2) (799) (io), J2 I/O (805) (io), J3 I/O (808) (io), J4 I/O (823) (io), K2 I/O (793) (io), K3 I/O (802) (io), K4 I/O (811) (io), L1 I/O (784) (io), L2 I/O (787) (io), L3 I/O (790) (io), L4 I/O (796) (io), M1 I/O (772) (io), M2 I/O (775) (io), M3 I/O (778) (io), M4 I/O (781) (io), N2 I/O (D3) (763) (io), N3 I/O (769) (io), N4 I/O (~{RS}) (766) (io), P1 I/O (760) (io), P2 I/O (D4) (757) (io), P3 I/O (754) (io), R1 I/O (751) (io), R2 I/O (748) (io), R3 I/O (745) (io), R4 I/O (742) (io), T1 I/O (739) (io), T2 I/O (736) (io), T3 I/O (730) (io), T4 I/O (727) (io), U2 I/O (733) (io), U3 I/O (718) (io), U4 I/O (715) (io), V1 I/O (~{CS0}) (724) (io), V2 I/O (D5) (721) (io), V3 I/O (709) (io), V4 I/O (706) (io), W2 I/O (712) (io), W3 I/O (697) (io), W4 I/O (694) (io), Y1 I/O (703) (io), Y2 I/O (700) (io), Y3 I/O (D6) (685) (io)
part C pins: A1 GND (power), A2 GND (power), A5 GND (power), A8 GND (power), A10 VCC (power), A14 GND (power), A17 VCC (power), A19 GND (power), A22 GND (power), A25 GND (power), A26 GND (power), AB1 GND (power), AB23 O (M1) (434) (io), AB26 GND (power), AC4 ~{PROGRAM} (in), AC8 VCC (power), AC14 VCC (power), AC20 VCC (power), AC23 I (M2) (438) (in), AD3 DONE (io), AD24 I (M0) (437) (in), AE1 GND (power), AE2 VCC (power), AE25 VCC (power), AE26 GND (power), AF1 GND (power), AF2 GND (power), AF5 GND (power), AF8 GND (power), AF10 VCC (power), AF13 GND (power), AF17 VCC (power), AF19 GND (power), AF22 GND (power), AF25 GND (power), AF26 GND (power), B1 GND (power), B2 VCC (power), B25 VCC (power), B26 GND (power), C3 CCLK (io), C8 NC, C26 I/O, TDI (230) (io), D4 O, TDO (0) (hiz), D7 VCC (power), D13 VCC (power), D19 VCC (power), E1 GND (power), E24 I/O, TCK (233) (io), E26 GND (power), G23 VCC (power), H1 GND (power), H4 VCC (power), H25 I/O, TMS (278) (io), H26 GND (power), K1 VCC (power), K26 VCC (power), N1 GND (power), N23 VCC (power), P4 VCC (power), P26 GND (power), U1 VCC (power), U26 VCC (power), W1 GND (power), W23 VCC (power), W26 GND (power), Y4 VCC (power)

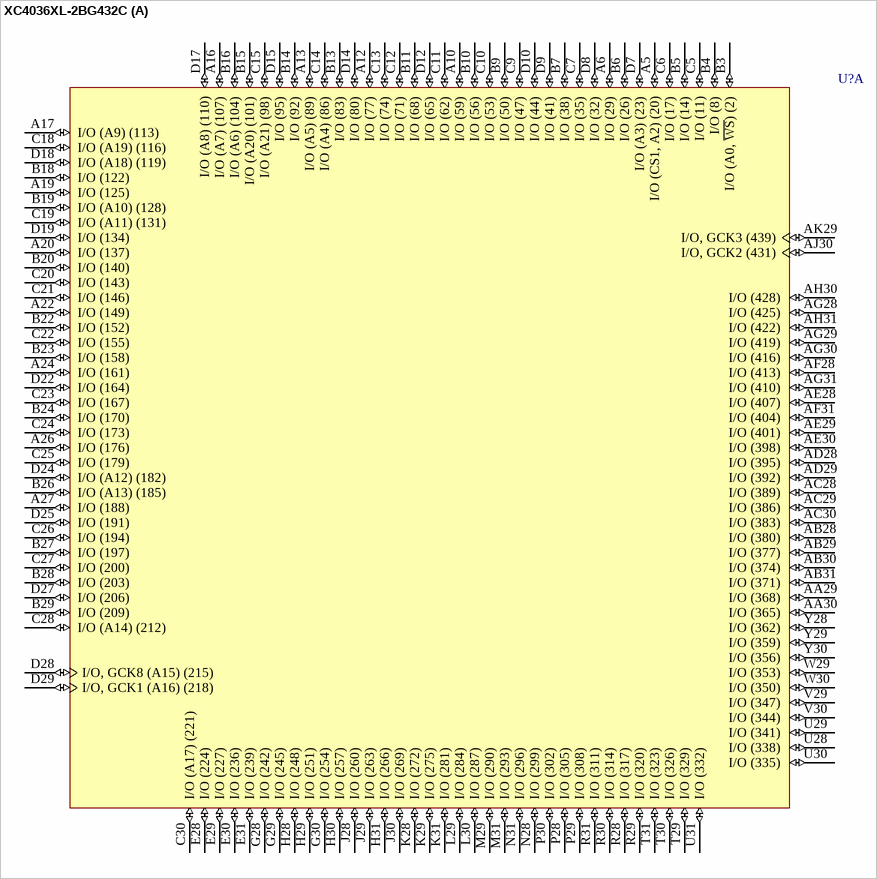
[diagram p271: symbol XC4036XL-2BG432C]

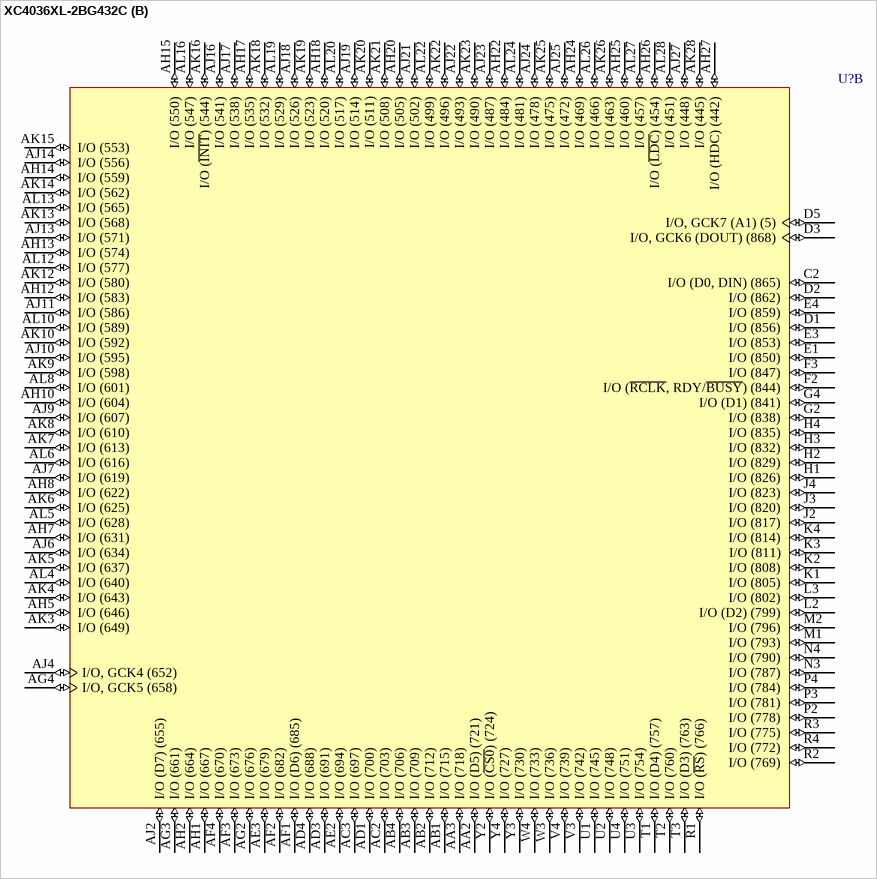
[diagram p272: symbol XC4036XL-2BG432C]

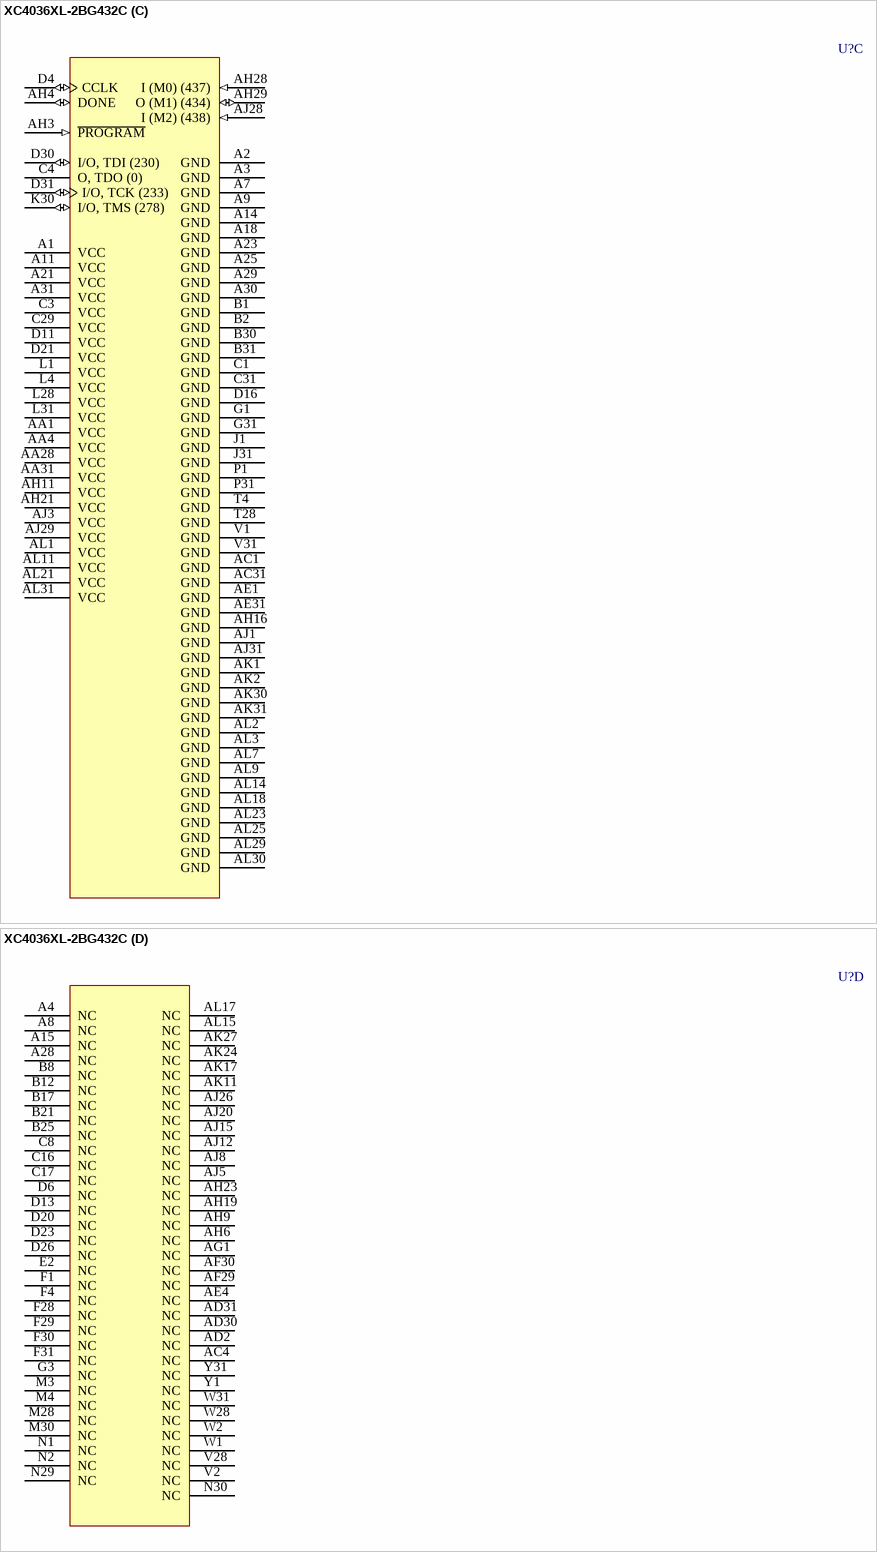
[diagram p273: symbol XC4036XL-2BG432C]